# Altium schematic symbol library AP7312-1833W6-7.SchLib: 1 symbol
Pins are listed as number, name and electrical type; pins without a type are passive.

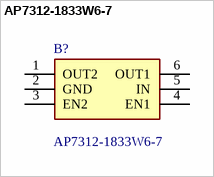
[diagram p0: symbol AP7312-1833W6-7]

## AP7312-1833W6-7
designator B?
LDO,Regulator,Pos,reg,3.3V,0.15A,SOT26 DiodesZetex AP7312-1833W6-7, Dual LDO Voltage Regulator, 150mA, 1.8 V, 3.3 V  /-2%, 6-Pin SOT-26; Manufacturer_Name: Diodes Incorporated; Geometry.Height: 1.45mm; Manufacturer_Part_Number: AP7312-1833W6-7; Mouser Part Number: 621-AP7312-1833W6-7; Mouser Price/Stock: https://www.mouser.co.uk/ProductDetail/Diodes-Incorporated/AP7312-1833W6-7?qs=gfe7vQ8txpU5mQKCTYslow%3D%3D; Arrow Part Number: AP7312-1833W6-7; Arrow Price/Stock: https://www.arrow.com/en/products/ap7312-1833w6-7/diodes-incorporated?utm_currency=USD&region=nac; Datasheet Link: https://www.mouser.se/datasheet/2/115/DIODS13520_1-2512524.pdf
footprint SOP95P285X145-6N
pins: 1 OUT2, 2 GND, 3 EN2, 4 EN1, 5 IN, 6 OUT1